# EAGLE library part ADXL311 (library andereBauteile)
ADXL311 +- 2g Beschleunigungssensor 2 Achsen Analoges Ausgangssignal
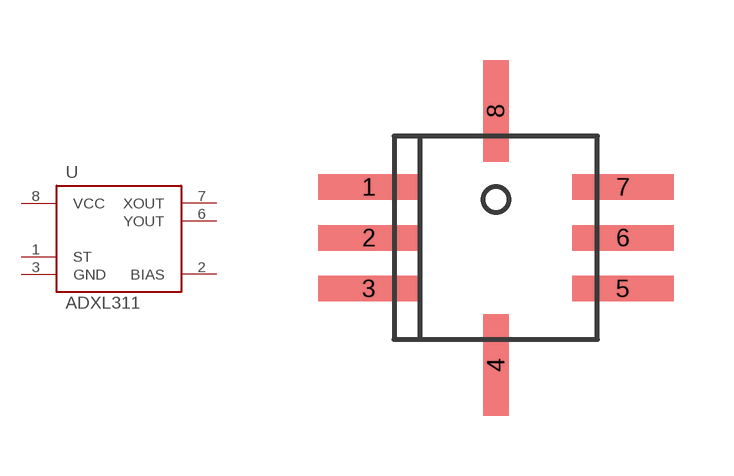
[diagram p17: symbol with the pads of CLCC-8; footprint CLCC-8]

Designator prefix -

## ADXL311  [CLCC-8]
1  ST
2  BIAS
3  GND  pwr
6  YOUT  out
7  XOUT  out
8  VCC  pwr

## Footprint CLCC-8 (pad centres in mm)
smd 2.54 x 0.635: 1 -3.175,1.27; 2 -3.175,0; 3 -3.175,-1.27; 5 3.175,-1.27; 6 3.175,0; 7 3.175,1.27
smd 0.635 x 2.54: 4 0,-3.175; 8 0,3.175